# Altium footprint library Diodes.PCBLIB: 44 footprints (part 1 of 3)
Each footprint in its own frame and in the unit in brackets; x right, y up, seen from the top. Pads: shape width x height; smd on the part's side, far side on the other; paste and mask are expansions set on the pad; w line width, h text height; cw(c..) or ccw(c..) is an arc to the next point about the centre after c.
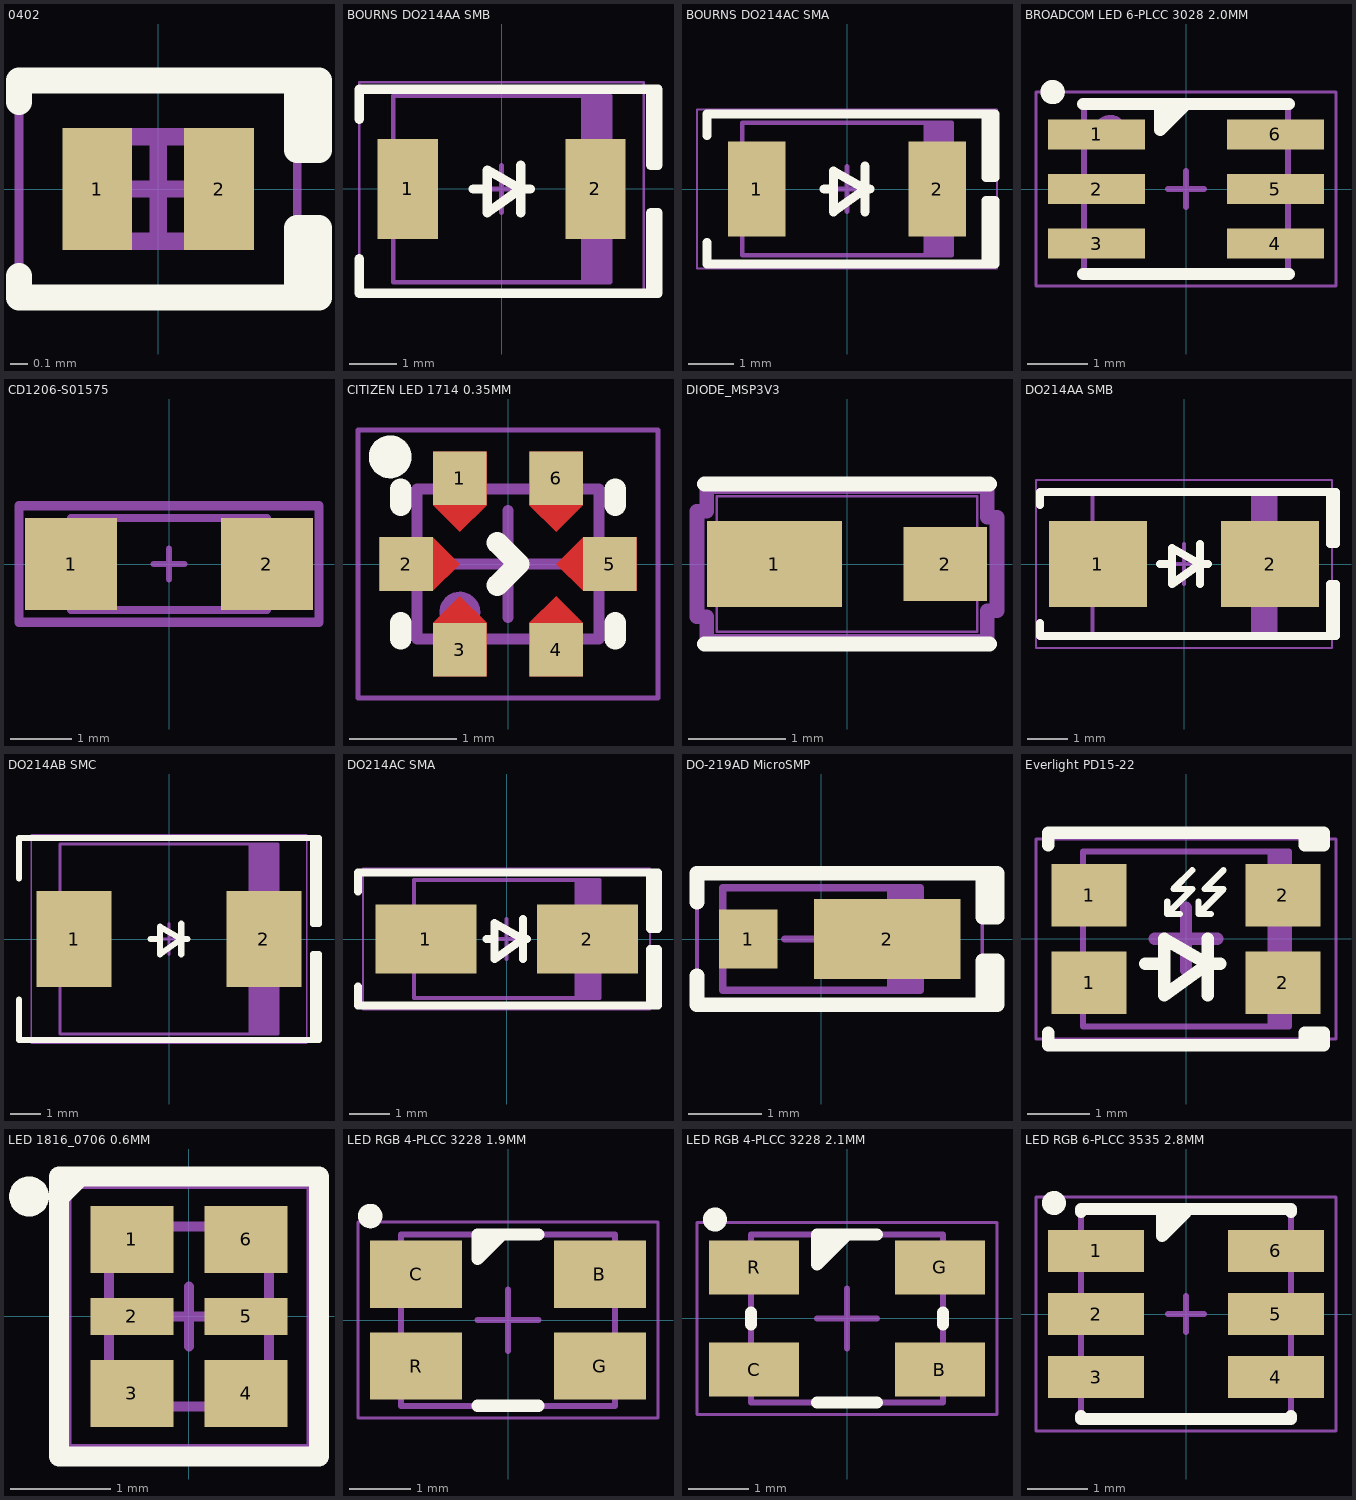
[diagram p0: the footprints below, top view; thin cyan lines are the x and y axes]

## 0402 [mm] "SODFL, 2-Leads, Body 0.675x1.075mm, IPC Medium Density"
height 0.4
pads (2):
  rect 0.4x0.7 smd: 1(-0.35,0) 2(0.35,0)
Top Overlay:
  lines w0.15: -0.8,-0.5 -0.8,-0.625 0.8,-0.625 ; -0.8,0.5 -0.8,0.625 0.8,0.625 ; 0.8,-0.625 0.925,-0.625 0.925,-0.225 0.8,-0.225 0.8,-0.625 ; 0.8,0.625 0.8,0.225 0.925,0.225 0.925,0.625 0.8,0.625
Mechanical 13:
  lines w0.1: -0.4,-0.3 0.4,-0.3 0.4,0.3 -0.4,0.3 -0.4,-0.3
Mechanical 15:
  lines w0.05: -0.8,-0.6 0.8,-0.6 0.8,0.6 -0.8,0.6 -0.8,-0.6
  lines w0.1: -0.25,0 0.25,0 ; 0,-0.25 0,0.25
3D body "DIODE - 0402.step": height 0.45, standoff 0, extent -0.505,-0.305 0.505,0.305

## BOURNS DO214AA SMB [mm] "Molded Diode, 2-Leads, Body 4.31x3.62mm, IPC Medium Density"
height 2.44
pads (2):
  rect 1.27x2.1 smd: 1(-1.98,0) 2(1.98,0)
Top Overlay:
  lines w0.2: -3,-1.475 -3,-2.2 3.25,-2.2 ; -3,1.475 -3,2.1 3.3,2.1 3.3,0.5 3.15,0.5 3.15,2.1 ; -0.6,0 -0.3,0 ; 0.4,-0.5 0.4,0.5 ; 0.6,0 0.4,0 ; 0.4,0 -0.3,-0.5 -0.3,0.4 0.4,0 ; 3.15,-2.2 3.15,-0.5 3.3,-0.5 3.3,-2.2 3.15,-2.2
Mechanical 13:
  rectangle: 1.67,-1.97 2.285,1.97
  lines w0.1: -2.285,-1.97 -2.285,1.97 2.285,1.97 2.285,-1.97 -2.285,-1.97
Mechanical 15:
  lines w0.05: -3,-2.25 -3,2.25 3,2.25 3,-2.25 -3,-2.25
  lines w0.1: -0.5,0 0.5,0 ; 0,-0.5 0,0.5
3D body "SMB.STEP": height 2.4, standoff 0, extent -2.6,-1.799 2.6,1.8

## BOURNS DO214AC SMA [mm] "Molded Diode, 2-Leads, Body 4.30x2.60mm, IPC Medium Density"
height 2.4
pads (2):
  rect 1.27x2.1 smd: 1(-1.985,0) 2(1.985,0)
Top Overlay:
  lines w0.2: -3.083,-1.175 -3.083,-1.651 3.25,-1.651 3.25,-0.254 3.056,-0.254 3.056,-1.651 ; -3.083,1.175 -3.083,1.651 3.25,1.651 3.25,0.254 3.056,0.254 3.056,1.651 ; -0.5,0 -0.3,0 ; 0.4,-0.5 0.4,0.5 ; 0.5,0 0.4,0 ; 0.4,0 -0.3,0.4 -0.3,-0.5 0.4,0
Mechanical 13:
  rectangle: 1.681,-1.46 2.3,1.46
  lines w0.1: -2.3,-1.46 -2.3,1.46 2.3,1.46 2.3,-1.46 -2.3,-1.46
Mechanical 15:
  lines w0.05: -3.3,-1.75 -3.3,1.75 3.3,1.75 3.3,-1.75 -3.3,-1.75
  lines w0.1: -0.5,0 0.5,0 ; 0,-0.5 0,0.5
3D body "SMA.STEP": height 2.4, standoff 0, extent -2.6,-1.375 2.6,1.375

## BROADCOM LED 6-PLCC 3028 2.0MM [mm] "SMD RGB LED Indication, 6 Pads, Body 3.00x2.80mm, Package 6-PLCC, J-Lead"
height 2
pads (6):
  rect 1.6x0.5 smd: 1(-1.475,0.9) 2(-1.475,0) 3(-1.475,-0.9) 4(1.475,-0.9) 5(1.475,0) 6(1.475,0.9)
Top Overlay:
  circle w0.2: c-2.2,1.6 r0.1
  region: 0,1.4 -0.425,0.975 -0.4,1.4
  lines w0.2: -1.7,-1.4 1.7,-1.4 ; -1.7,1.4 1.7,1.4 ; -0.4,1.4 -0.425,1.4 -0.425,0.975 0,1.4
Mechanical 13:
  circle w0.1: c-1.25,0.95 r0.223
  lines w0.1: -1.68,-1.4 1.68,-1.4 1.68,1.399 -1.68,1.399 -1.68,-1.4
Mechanical 15:
  lines w0.05: -2.475,-1.6 2.475,-1.6 2.475,1.6 -2.475,1.6 -2.475,-1.6
  lines w0.1: -0.3,0 0,0 ; 0,-0.3 0,0 ; 0,0.3 0,0 ; 0.3,0 0,0
3D body "Broadcom - LED 6-PLCC 3028 2.0MM v7 body.step": height 2, standoff 0, extent -1.68,-1.4 1.68,1.399
3D body "Broadcom - LED 6-PLCC 3028 2.0MM v7 lens.step": height 2, standoff 1.21, extent -1.15,-1.15 1.15,1.15

## CD1206-S01575 [mm]
pads (2):
  rect 1.5x1.5 smd: 1(-1.6,0) 2(1.6,0)
Top Courtyard:
  lines w0.15: -2.45,-0.95 -2.45,0.95 2.45,0.95 2.45,-0.95 -2.45,-0.95
Top Designator:
  text ".Designator" at -2.15,0.1 h0.3
Top Assembly:
  lines w0.127: -1.15,-0.75 -1.15,0.75 ; -1.6,-0.75 -1.6,0.75 1.6,0.75 1.6,-0.75 -1.6,-0.75
Top Component Center:
  lines w0.1: -0.25,0 0.25,0 ; 0,-0.25 0,0.25
Top Component Outline:
  lines w0.127: -1.6,-0.75 1.6,-0.75 1.6,0.75 -1.6,0.75 -1.6,-0.75
3D body "CD1206-S01575--3DModel-STEP-317126 (1).STEP": height 0.75, standoff 0, extent -1.5,-0.65 1.5,0.65

## CITIZEN LED 1714 0.35MM [mm] "SMD RGB LED Indication, 6 Pads, Body 1.70x1.40mm, No Lead"
height 0.35
pads (6):
  rect 0.5x0.5 smd paste+0 mask+0: 1(-0.45,0.8) 2(-0.95,0) 3(-0.45,-0.8) 4(0.45,-0.8) 5(0.95,0) 6(0.45,0.8)
Top Layer:
  region: -0.7,-0.25 -0.45,0 -0.7,0.25 -1.2,0.25 -1.2,-0.25
  region: -0.7,0.55 -0.45,0.3 -0.2,0.55 -0.2,1.05 -0.7,1.05
  region: -0.2,-0.55 -0.45,-0.3 -0.7,-0.55 -0.7,-1.05 -0.2,-1.05
  region: 0.2,0.55 0.45,0.3 0.7,0.55 0.7,1.05 0.2,1.05
  region: 0.7,-0.55 0.45,-0.3 0.2,-0.55 0.2,-1.05 0.7,-1.05
  region: 0.7,0.25 0.45,0 0.7,-0.25 1.2,-0.25 1.2,0.25
Top Overlay:
  circle w0.2: c-1.1,1 r0.1
  lines w0.2: -1,-0.7 -1,-0.55 ; -1,0.55 -1,0.7 ; -0.1,-0.2 0.1,0 -0.1,0.2 ; 1,-0.7 1,-0.55 ; 1,0.55 1,0.7
Mechanical 13:
  circle w0.1: c-0.45,-0.45 r0.141
  lines w0.1: -0.85,0.7 0.85,0.7 0.85,-0.7 -0.85,-0.7 -0.85,0.7 ; -0.85,0.7 -0.85,0.7 ; -0.85,0.7 -0.85,0.7
Mechanical 15:
  lines w0.05: -1.4,-1.25 1.4,-1.25 1.4,1.25 -1.4,1.25 -1.4,-1.25
  lines w0.1: -0.5,0 0,0 ; 0,-0.5 0,0 ; 0,0.5 0,0 ; 0.5,0 0,0
3D body "Citizen - LED 1714 0.35MM v5 lens.step": height 0.35, standoff 0.13, extent -0.85,-0.7 0.85,0.7
3D body "Citizen - LED 1714 0.35MM v5 body.step": height 0.18, standoff 0, extent -0.85,-0.7 0.85,0.7

## DIODE_MSP3V3 [mil]
pads (2):
  rect 55x35 smd: 1(-29.5,0)
  rect 34x30 smd: 2(40,0)
Top Overlay:
  lines w6: -58,-32.5 58,-32.5 ; -58,32.5 58,32.5
Mechanical 13:
  lines w1: -53,-27.5 -53,27.5 53,27.5 53,-27.5 -53,-27.5 ; -53,-17.5 -53,17.5 -53,-17.5 ; 53,-15 53,15 53,-15
Mechanical 15:
  lines w6: -61,-21.5 -57,-21.5 -57,-31.5 57,-31.5 57,-19 61,-19 61,19 57,19 57,31.5 -57,31.5 -57,21.5 -61,21.5 -61,-21.5
3D body "DIODE_MSP3V3.step": height 29.02, standoff 0, extent -52.99,-27.48 52.99,27.48

## DO214AA SMB [mm] "Molded Diode, 2-Leads, Body 4.31x3.62mm, IPC Medium Density"
height 2.44
pads (2):
  rect 2.45x2.15 smd: 1(-2.15,0) 2(2.15,0)
Top Overlay:
  lines w0.2: -3.6,-1.475 -3.6,-1.8 3.8,-1.8 3.8,-0.5 3.65,-0.5 3.65,-1.8 ; -3.6,1.475 -3.6,1.8 3.8,1.8 3.8,0.5 3.65,0.5 3.65,1.8 ; -0.6,0 -0.3,0 ; 0.4,-0.5 0.4,0.5 ; 0.6,0 0.4,0 ; 0.4,0 -0.3,0.4 -0.3,-0.5 0.4,0
Mechanical 13:
  rectangle: 1.67,-1.8 2.285,1.8
  lines w0.1: -2.285,-1.8 2.285,-1.8 2.285,1.8 -2.285,1.8 -2.285,-1.8
Mechanical 15:
  lines w0.05: -3.7,-2.1 3.7,-2.1 3.7,2.1 -3.7,2.1 -3.7,-2.1
  lines w0.1: -0.5,0 0.5,0 ; 0,-0.5 0,0.5
3D body "SMB.STEP": height 2.4, standoff 0, extent -2.6,-1.799 2.6,1.8

## DO214AB SMC [mm] "Molded Diode, 2-Leads, Body 6.85x5.90mm, IPC Medium Density"
height 2.62
pads (2):
  rect 2.45x3.15 smd: 1(-3.1,0) 2(3.1,0)
Top Overlay:
  lines w0.2: -4.9,-1.975 -4.9,-3.3 4.9,-3.3 4.9,-0.5 4.7,-0.5 4.7,-3.3 ; -4.9,1.975 -4.9,3.3 4.9,3.3 4.9,0.5 4.7,0.5 4.7,3.3 ; -0.6,0 -0.3,0 ; 0.4,-0.5 0.4,0.5 ; 0.6,0 0.4,0 ; 0.4,0 -0.3,-0.5 -0.3,0.4 0.4,0
Mechanical 13:
  rectangle: 2.599,-3.11 3.555,3.11
  lines w0.1: -3.555,-3.11 3.555,-3.11 3.555,3.11 -3.555,3.11 -3.555,-3.11
Mechanical 15:
  lines w0.05: -4.5,-3.4 4.5,-3.4 4.5,3.4 -4.5,3.4 -4.5,-3.4
  lines w0.1: -0.5,0 0.5,0 ; 0,-0.5 0,0.5
3D body "SMC.STEP": height 2.6, standoff 0, extent -3.97,-2.952 3.97,2.952

## DO214AC SMA [mm] "Molded Diode, 2-Leads, Body 4.30x2.60mm, IPC Medium Density"
height 2.4
pads (2):
  rect 2.5x1.7 smd: 1(-2,0) 2(2,0)
Top Overlay:
  lines w0.2: -3.683,-1.175 -3.683,-1.651 3.75,-1.651 3.75,-0.254 3.556,-0.254 3.556,-1.651 ; -3.683,1.175 -3.683,1.651 3.75,1.651 3.75,0.254 3.556,0.254 3.556,1.651 ; -0.5,0 -0.3,0 ; 0.4,-0.5 0.4,0.5 ; 0.5,0 0.4,0 ; 0.4,0 -0.3,0.4 -0.3,-0.5 0.4,0
Mechanical 13:
  rectangle: 1.681,-1.46 2.3,1.46
  lines w0.1: -2.3,-1.46 -2.3,1.46 2.3,1.46 2.3,-1.46 -2.3,-1.46
Mechanical 15:
  lines w0.05: -3.556,-1.75 -3.556,1.75 3.556,1.75 3.556,-1.75 -3.556,-1.75
  lines w0.1: -0.5,0 0.5,0 ; 0,-0.5 0,0.5
3D body "SMA.STEP": height 2.4, standoff 0, extent -2.6,-1.375 2.6,1.375

## DO-219AD MicroSMP [mm] "Molded Diode, 2-Leads, Body 2.70x1.40mm, IPC Medium Density"
height 0.73
pads (2):
  rect 0.8x0.8 smd: 1(-1,0)
  rect 2x1.1 smd: 2(0.9,0)
Top Overlay:
  lines w0.2: -1.7,-0.5 -1.7,-0.9 2.4,-0.9 2.4,-0.3 2.206,-0.3 2.206,-0.894 ; -1.7,0.5 -1.7,0.9 2.4,0.9 2.4,0.3 2.206,0.3 2.206,0.894
Mechanical 13:
  rectangle: 0.9,-0.7 1.35,0.7
  lines w0.1: -1.35,-0.7 -1.35,0.7 1.35,0.7 1.35,-0.7 -1.35,-0.7
Mechanical 15:
  lines w0.05: -1.7,-0.9 2.2,-0.9 2.2,0.9 -1.7,0.9 -1.7,-0.9
  lines w0.1: -0.5,0 0.5,0 ; 0,-0.5 0,0.5
3D body "Vishay - MICROSMP.step": height 0.74, standoff 0, extent -1.25,-0.65 1.25,0.65

## Everlight PD15-22 [mm] "4-SMD, 4-Leads, Body 3.3x2.8mm, IPC Medium Density"
height 1.1
pads (4):
  rect 1.2x1 smd: 1(-1.55,-0.7) 1(-1.55,0.7) 2(1.55,-0.7) 2(1.55,0.7)
Top Overlay:
  region: 2.2,-1.5 1.9,-1.5 1.9,-1.8 2.2,-1.8
  region: 2.2,1.8 1.9,1.8 1.9,1.5 2.2,1.5
  lines w0.1: -0.3,0.6 -0.3,0.4 ; -0.1,0.4 -0.3,0.4 ; 0.1,1.1 -0.2,0.8 0.1,0.8 -0.3,0.4 ; 0.2,0.6 0.2,0.4 ; 0.4,0.4 0.2,0.4 ; 0.6,1.1 0.3,0.8 0.6,0.8 0.2,0.4
  lines w0.2: -2.2,-1.5 -2.2,-1.7 2.2,-1.7 2.2,-1.5 1.9,-1.5 1.9,-1.7 ; -2.2,1.5 -2.2,1.7 2.2,1.7 2.2,1.5 1.9,1.5 1.9,1.7 ; -0.65,-0.4 -0.35,-0.4 ; 0.35,-0.9 0.35,0 ; 0.55,-0.4 0.35,-0.4 ; 0.35,-0.4 -0.35,0 -0.35,-0.9 0.35,-0.4
Mechanical 13:
  region: 1.65,1.4 1.3,1.4 1.3,-1.4 1.65,-1.4
  lines w0.1: 1.65,-1.175 1.65,-1.4 ; 1.65,-1.4 -1.65,-1.4 -1.65,1.4 1.65,1.4 1.65,-1.4
Mechanical 15:
  lines w0.05: -2.4,-1.6 2.4,-1.6 2.4,1.6 -2.4,1.6 -2.4,-1.6
  lines w0.2: -0.5,0 0.5,0 ; 0,-0.5 0,0.5
3D body "Everlight - 4SMD 2.8 x 3.3mm.step": height 1.1, standoff 0, extent -1.65,-1.4 1.65,1.4

## LED 1816_0706 0.6MM [mm] "SMD RGB LED Indication 6 Pads, Body 1.80x1.60mm"
height 0.6
pads (6):
  rect 0.83x0.67 smd: 1(-0.572,0.77) 3(-0.572,-0.77) 4(0.572,-0.77) 6(0.572,0.77)
  rect 0.83x0.37 smd: 2(-0.572,0) 5(0.572,0)
Top Overlay:
  circle w0.2: c-1.6,1.2 r0.1
  region: -0.95,1.4 -1.3,1.4 -1.3,1.05
  region: -1.35,1.45 -1.3,1.4
  lines w0.2: -1.3,-1.4 1.3,-1.4 1.3,1.4 -1.3,1.4 -1.3,-1.4
Mechanical 13:
  lines w0.1: -0.8,-0.9 -0.8,0.9 0.8,0.9 0.8,-0.9 -0.8,-0.9
Mechanical 15:
  lines w0.05: -1.2,-1.3 -1.2,1.3 1.2,1.3 1.2,-1.3 -1.2,-1.3
  lines w0.1: -0.3,0 0,0 ; 0,-0.3 0,0 ; 0,0.3 0,0 ; 0.3,0 0,0
3D body "Rohm - LED 1816_0706 0.6MM v3 lens.step": height 0.6, standoff 0.2, extent -0.65,-0.75 0.65,0.75
3D body "Rohm - LED 1816_0706 0.6MM v4 body.step": height 0.6, standoff 0, extent -0.8,-0.9 0.8,0.9

## LED RGB 4-PLCC 3228 1.9MM [mm] "SMD RGB LED Indication, 4 Pads, Body 3.2x2.8mm, Package 4-PLCC"
height 1.9
pads (4):
  rect 1.5x1.1 smd: B(1.5,0.75) C(-1.5,0.75) G(1.5,-0.75) R(-1.5,-0.75)
Top Overlay:
  circle w0.2: c-2.25,1.7 r0.1
  region: -0.5,1.4 -0.1,1.4 -0.5,1
  lines w0.2: -0.5,-1.4 0.5,-1.4 ; -0.1,1.4 -0.5,1 -0.5,1.4 0.5,1.4
Mechanical 13:
  circle w0.1: c-1.15,0.85 r0.3
  lines w0.1: -1.75,-1.4 1.75,-1.4 1.75,1.4 -1.75,1.4 -1.75,-1.4
Mechanical 15:
  lines w0.05: -2.45,-1.6 2.45,-1.6 2.45,1.6 -2.45,1.6 -2.45,-1.6
  lines w0.1: -0.5,0 0,0 ; 0,-0.5 0,0 ; 0,0.5 0,0 ; 0.5,0 0,0
3D body "LED RGB 4-PLCC 3228 1.9MM LENS.step": height 2.05, standoff 1.34, extent -1.179,-1.179 1.179,1.179
3D body "LED RGB 4-PLCC 3228 1.9MM BODY.step": height 2.09, standoff 0, extent -1.75,-1.4 1.75,1.4

## LED RGB 4-PLCC 3228 2.1MM [mm] "SMD RGB LED Indicattion - 2V Red 3.2V Green 3.2V Blue, 4 Pads, Body 3.20x2.80mm, 4-PLCC"
height 2.1
pads (4):
  rect 1.5x0.9 smd: B(1.55,-0.85) C(-1.55,-0.85) G(1.55,0.85) R(-1.55,0.85)
Top Overlay:
  circle w0.2: c-2.2,1.65 r0.1
  region: -0.5,1.4 -0.5,0.9 0,1.4
  lines w0.2: -1.6,-0.1 -1.6,0.1 ; -0.5,-1.4 0.5,-1.4 ; 0,1.4 -0.5,0.9 -0.5,1.4 0.5,1.4 ; 1.6,-0.1 1.6,0.1
Mechanical 13:
  circle w0.1: c-1.143,0.889 r0.284
  lines w0.1: -1.6,-1.4 -1.6,1.4 1.6,1.4 1.6,-1.4 -1.6,-1.4
Mechanical 15:
  lines w0.05: -2.5,-1.6 2.5,-1.6 2.5,1.6 -2.5,1.6 -2.5,-1.6
  lines w0.1: -0.5,0 0,0 ; 0,-0.5 0,0 ; 0,0.5 0,0 ; 0.5,0 0,0
3D body "LED RGB 4-PLCC 3228 2.1MM LENS.step": height 2.42, standoff 1.2, extent -1.174,-1.174 1.175,1.175
3D body "LED RGB 4-PLCC 3228 2.1MM BASE.step": height 2.1, standoff 0, extent -1.85,-1.4 1.85,1.4

## LED RGB 6-PLCC 3535 2.8MM [mm] "SMD RGB LED Indication, 6 Pads, Body 3.50x3.50mm, Package 6-PLCC, J-Lead"
height 2.8
pads (6):
  rect 1.6x0.7 smd: 1(-1.5,1.05) 2(-1.5,0) 3(-1.5,-1.05) 4(1.5,-1.05) 5(1.5,0) 6(1.5,1.05)
Top Overlay:
  circle w0.2: c-2.2,1.85 r0.1
  region: -0.4,1.8 -0.4,1.4 -0.3,1.4 0,1.7
  lines w0.2: -1.75,-1.7 -1.75,-1.75 1.75,-1.75 1.75,-1.7 ; -1.75,1.7 -1.75,1.75 1.75,1.75 1.75,1.7 ; -0.4,1.7 -0.4,1.3 0,1.7
Mechanical 13:
  circle w0.1: c-1.3,1.05 r0.3
  lines w0.1: -1.75,1.75 1.75,1.75 ; -1.75,1.75 1.75,1.75 ; -1.75,1.75 -1.75,-1.75 1.75,-1.75 1.75,1.75
Mechanical 15:
  lines w0.05: -2.5,-1.95 2.5,-1.95 2.5,1.95 -2.5,1.95 -2.5,-1.95
  lines w0.1: -0.3,0 0,0 ; 0,-0.3 0,0 ; 0,0.3 0,0 ; 0.3,0 0,0
3D body "LED RGB 6-PLCC 3535 2.8MM BODY.step": height 3, standoff 0, extent -1.75,-1.75 1.75,1.75
3D body "LED RGB 6-PLCC 3535 2.8MM LENS.step": height 2.94, standoff 2.19, extent -1.5,-1.5 1.5,1.5